# EAGLE library part MP1584EN (library common)
3A, 1.5MHz, 28V Step-Down Converter
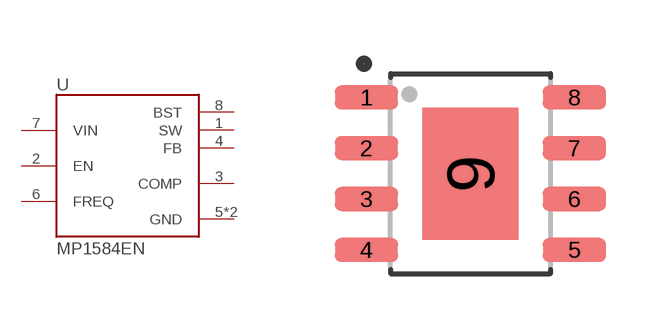
[diagram p3: symbol with the pads of SOIC127P600X170-9N; footprint SOIC127P600X170-9N]

Designator prefix U

## MP1584EN (AVAILABILITY: Unavailable; DESCRIPTION: Buck Switching Regulator IC Positive Adjustable 0.8V 1 Output 3A 8-SOIC _0.154, 3.90mm Width_ Exposed Pad; MF: Monolithic Power; MP: MP1584EN; PACKAGE: SOIC-8 Monolithic Power; PRICE: None)  [SOIC127P600X170-9N]
1  SW  out
2  EN  in
3  COMP  out
4  FB  in
5  GND  pwr
6  FREQ  in
7  VIN  in
8  BST  pas
9  GND  pwr

## Footprint SOIC127P600X170-9N (pad centres in mm)
smd 1.584 x 0.6: 1 -2.602,1.905; 2 -2.602,0.635; 3 -2.602,-0.635; 4 -2.602,-1.905; 5 2.602,-1.905; 6 2.602,-0.635; 7 2.602,0.635; 8 2.602,1.905
smd 2.41 x 3.3: 9 0,0